# Altium schematic symbol library DS90LV017.SchLib: 1 symbol
Pins are listed as number, name and electrical type; pins without a type are passive.

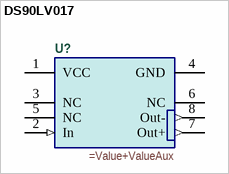
[diagram p0: symbol DS90LV017]

## DS90LV017
designator U?
=Description
pins: 1 VCC (power), 2 In (in), 3 NC, 4 GND (power), 5 NC, 6 NC, 7 Out+ (out), 8 Out- (out)